# Altium integrated library MC14069UBCPG.IntLib: 1 symbol
Pins are listed as number, name and electrical type; pins without a type are passive.

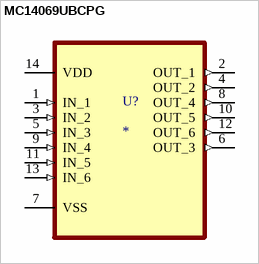
[diagram p0: symbol MC14069UBCPG]

## MC14069UBCPG
designator U?
Inverter IC 6 Channel - 14-PDIP; MF: ON Semiconductor; MP: MC14069UBCPG; Price: None; Value: *; Package: DIP-14 Motorola; SnapEDA_Link: https://www.snapeda.com/parts/MC14069UBCPG/Onsemi/view-part/?ref=snap; Check_prices: https://www.snapeda.com/parts/MC14069UBCPG/Onsemi/view-part/?ref=eda; Availability: In Stock
footprint DIP254P762X469-14
pins: 1 IN_1 (in), 2 OUT_1 (out), 3 IN_2 (in), 4 OUT_2 (out), 5 IN_3 (in), 6 OUT_3 (out), 7 VSS (power), 8 OUT_4 (out), 9 IN_4 (in), 10 OUT_5 (out), 11 IN_5 (in), 12 OUT_6 (out), 13 IN_6 (in), 14 VDD (power)